# EAGLE library part 16X2LCD (library CEDTv78)
ALPHANUMERIC-LCD
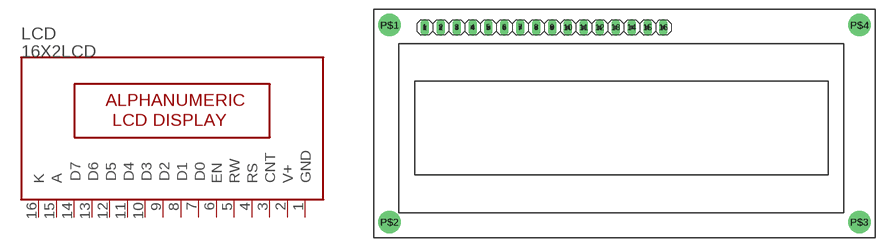
[diagram p11: symbol with the pads of 16X2_LCD; footprint 16X2_LCD]

Designator prefix LCD

## 16X2LCD  [16X2_LCD]
1  GND
2  V+
3  CNT
4  RS
5  RW
6  EN
7  D0
8  D1
9  D2
10  D3
11  D4
12  D5
13  D6
14  D7
15  A
16  K

## Footprint 16X2_LCD (pad centres in mm)
16x2 LCD
drill 0.813 long: 1 8.12,33.608; 2 10.66,33.608; 3 13.2,33.608; 4 15.74,33.608; 5 18.28,33.608; 6 20.82,33.608; 7 23.36,33.608; 8 25.9,33.608; 9 28.44,33.608; 10 30.98,33.608; 11 33.52,33.608; 12 36.06,33.608; 13 38.6,33.608; 14 41.14,33.608; 15 43.68,33.608; 16 46.22,33.608
drill 2.54: P$1 2.5,34; P$2 2.5,2.5; P$3 77.5,2.5; P$4 77.5,34